# EAGLE library part 7868-P (library eagle_tubes_v6)
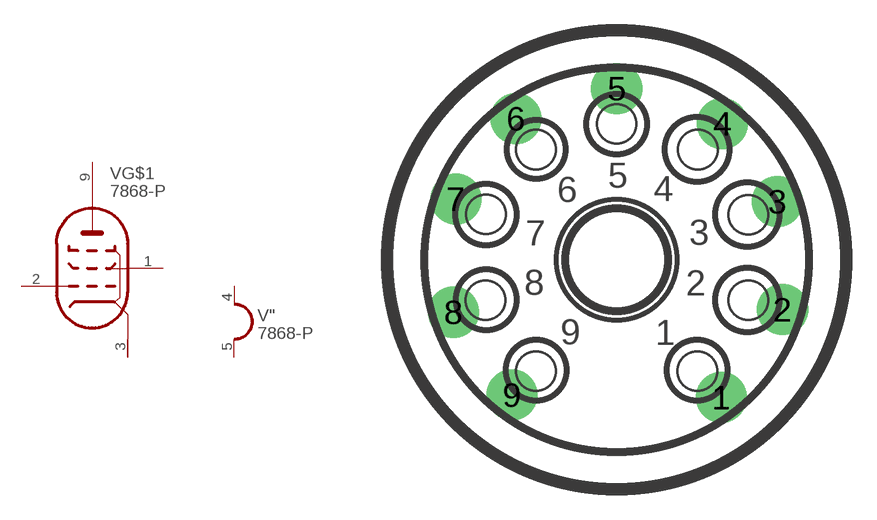
[diagram p43: symbol with the pads of NOVAL; footprint NOVAL]

Designator prefix V; gates G$1=PENTODE "=HEATER_1

## 7868-P  [NOVAL]
1  G$1:PSG  pas
2  G$1:PG  pas
3  G$1:PK  pas
4  ":H1  pas
5  ":H2  pas
9  G$1:PA  pas

## Footprint NOVAL (pad centres in mm)
drill 1.422 pad 2.54: 1 5.207,-6.858; 2 8.254,-2.484; 3 8.004,2.893; 4 5.258,6.77; 5 0,8.524; 6 -5.004,7.024; 7 -8.004,3.02; 8 -8.127,-2.611; 9 -5.207,-6.731